# Altium schematic symbol library Schlib_GenericNode_1.SchLib: 16 symbols
Pins are listed as number, name and electrical type; pins without a type are passive.

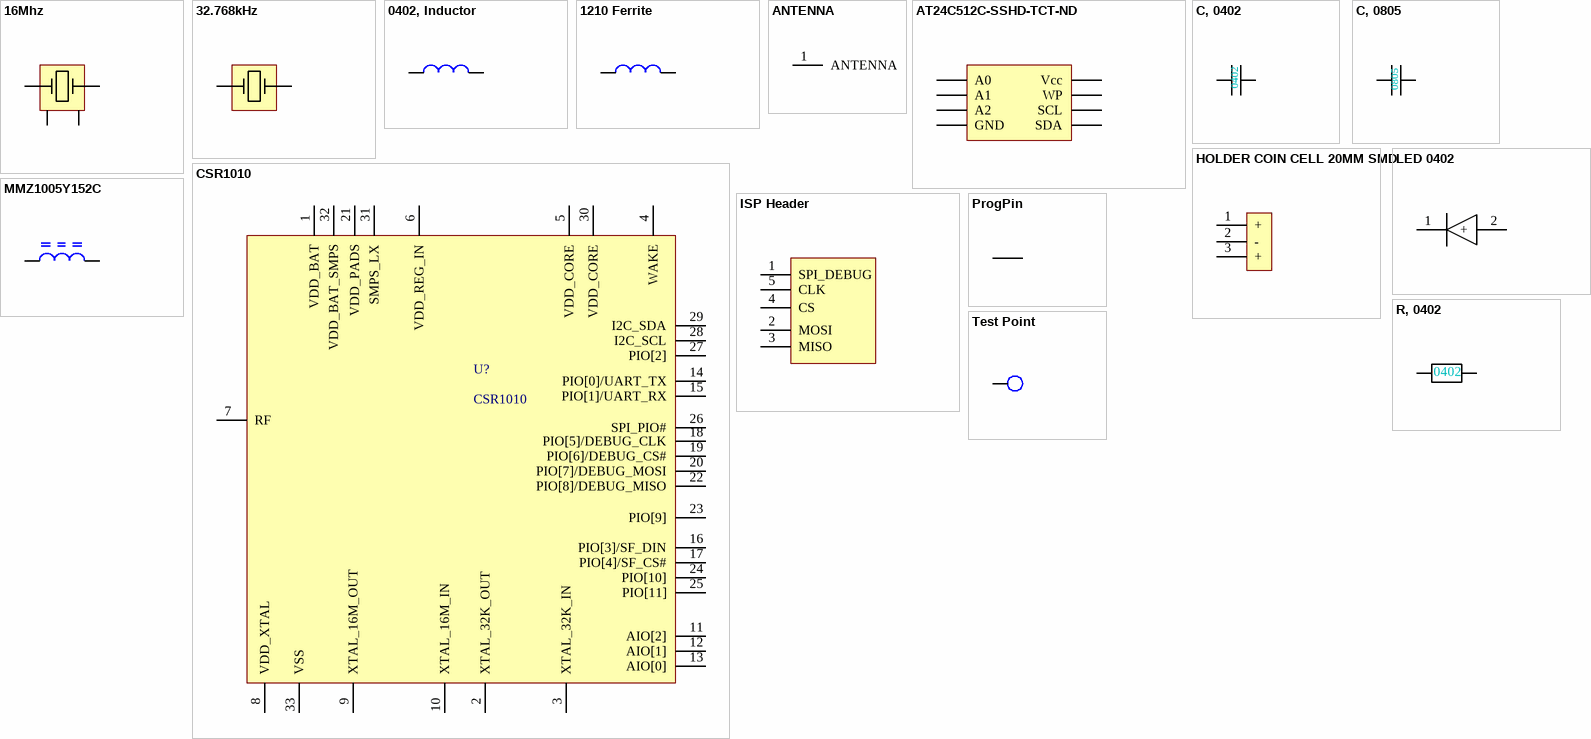
[diagram p0: symbols 16Mhz to Test Point]

## 16Mhz
designator X ?, comment 16MHz
footprint 16Mhz (SER3628CT-ND)
pins: 1, 2, 3, 4

## 32.768kHz
designator X ?
footprint 32.7KHZ (XC1616CT-ND)
pins: 1, 4

## 0402, Inductor
designator L?
footprint L0402
pins: 1, 2

## 1210 Ferrite
designator L?
footprint L1210- Power Inductor
pins: 1, 2

## ANTENNA
designator U ?
footprint ANTENNA
pins: 1 ANTENNA

## AT24C512C-SSHD-TCT-ND
designator U ?
footprint 8-SOIC
pins: 1 A0, 2 A1, 3 A2, 4 GND, 5 SDA, 6 SCL, 7 WP, 8 Vcc

## C, 0402
designator C ?
footprint C0402
pins: 1, 2
text: 0402

## C, 0805
designator C ?
footprint C0805
pins: 1, 2
text: 0805

## CSR1010
designator U?
footprint 32-lead-QFN-5x5x0.6mm
pins: 1 VDD_BAT, 2 XTAL_32K_OUT, 3 XTAL_32K_IN, 4 WAKE, 5 VDD_CORE, 6 VDD_REG_IN, 7 RF, 8 VDD_XTAL, 9 XTAL_16M_OUT, 10 XTAL_16M_IN, 11 AIO[2], 12 AIO[1], 13 AIO[0], 14 PIO[0]/UART_TX, 15 PIO[1]/UART_RX, 16 PIO[3]/SF_DIN, 17 PIO[4]/SF_CS#, 18 PIO[5]/DEBUG_CLK, 19 PIO[6]/DEBUG_CS#, 20 PIO[7]/DEBUG_MOSI, 21 VDD_PADS, 22 PIO[8]/DEBUG_MISO, 23 PIO[9], 24 PIO[10], 25 PIO[11], 26 SPI_PIO#, 27 PIO[2], 28 I2C_SCL, 29 I2C_SDA, 30 VDD_CORE, 31 SMPS_LX, 32 VDD_BAT_SMPS, 33 VSS

## HOLDER COIN CELL 20MM SMD
designator BAT  (value not drawn)
footprint HOLDER COIN CELL 20MM SMD
pins: 1 +, 2 -, 3 +

## ISP Header
designator J ?
footprint 5Pins Header 2x5MM
pins: 1 SPI_DEBUG, 2 MOSI, 3 MISO, 4 CS, 5 CLK

## LED 0402
designator U ?, comment LM555 IC DIP
footprint LED GREEN CLEAR 0402 SMD
pins: 1, 2 +

## MMZ1005Y152C
designator L?
footprint MMZ1005Y152C
pins: 1, 2

## ProgPin
designator ProgPin ?
footprint ProgPin
pins: 1 ProgPin ?

## R, 0402
designator R ?
footprint R0402
pins: 1, 2
text: 0402

## Test Point
designator TP ?
Test Points
footprint TP
pins: 1 TP